# Altium footprint library PCB - LEADED - ADI-R-8_N.PCBLIB: 1 footprints
Each footprint in its own frame and in the unit in brackets; x right, y up, seen from the top. Pads: shape width x height; smd on the part's side, far side on the other; paste and mask are expansions set on the pad; w line width, h text height; cw(c..) or ccw(c..) is an arc to the next point about the centre after c.
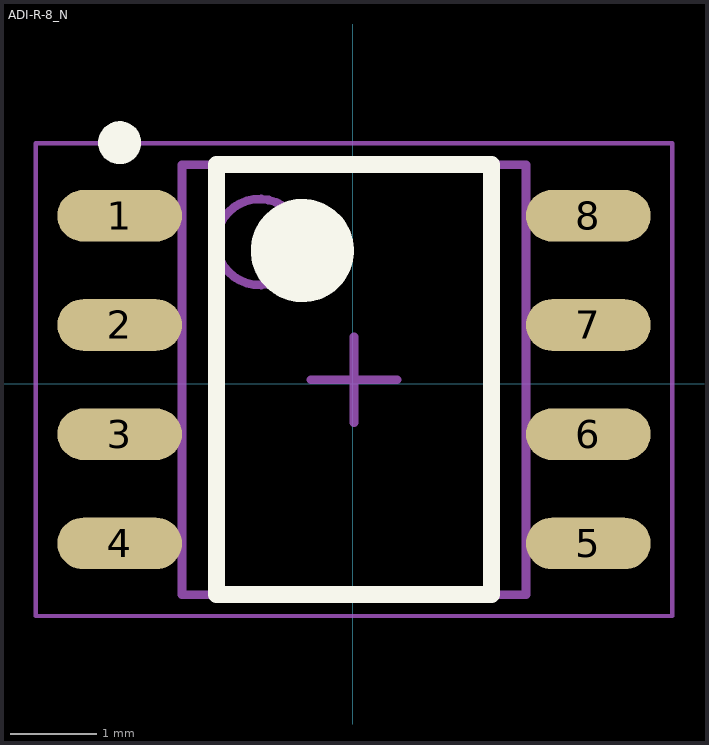
[diagram p0: the footprint, top view; thin cyan lines are the x and y axes]

## ADI-R-8_N [mm]
height 0.6
pads (8):
  oval 1.45x0.6 smd: 1(-2.712,1.955) 2(-2.712,0.685) 3(-2.712,-0.585) 4(-2.712,-1.855) 5(2.738,-1.855) 6(2.738,-0.585) 7(2.738,0.685) 8(2.738,1.955)
Top Overlay:
  circle w0.25: c-2.712,2.805 r0.125
  circle w0.6: c-0.587,1.55 r0.3
  lines w0.2: -1.587,-2.45 -1.587,2.55 1.613,2.55 1.613,-2.45 -1.587,-2.45
Top Assembly:
  circle w0.1: c-1.087,1.65 r0.5
  lines w0.1: -1.987,-2.45 -1.987,2.55 2.013,2.55 2.013,-2.45 -1.987,-2.45
Top Courtyard:
  lines w0.05: -3.687,-2.7 -3.687,2.8 3.713,2.8 3.713,-2.7 -3.687,-2.7
Top Designator:
  text ".Designator" at -4.4,-3.9 h1
Top Component Center:
  lines w0.1: -0.487,0.05 0.513,0.05 ; 0.013,-0.45 0.013,0.55
3D body "SOIC127P600X175-8N.step": height 1.75, standoff 0, extent -2.987,-2.45 3.013,2.55